# Altium schematic symbol library Misc.SchLib: 3 symbols
Pins are listed as number, name and electrical type; pins without a type are passive.

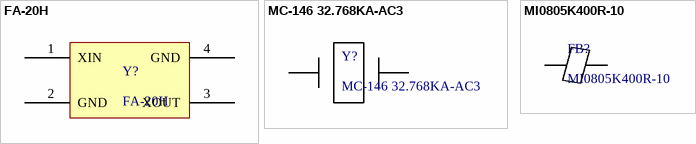
[diagram p0: symbols FA-20H to MI0805K400R-10]

## FA-20H
designator Y?
40MHz Crystal Oscillator
pins: 1 XIN, 2 GND (power), 3 XOUT, 4 GND (power)

## MC-146 32.768KA-AC3
designator Y?
32.768kHz Crystal
pins: 1 IN, 2 OUT

## MI0805K400R-10
designator FB?
Ferrite Bead
pins: 1, 2